# Altium footprint library PcbLib1.PcbLib: 22 footprints (part 2 of 2)
Each footprint in its own frame and in the unit in brackets; x right, y up, seen from the top. Pads: shape width x height; smd on the part's side, far side on the other; paste and mask are expansions set on the pad; w line width, h text height; cw(c..) or ccw(c..) is an arc to the next point about the centre after c.
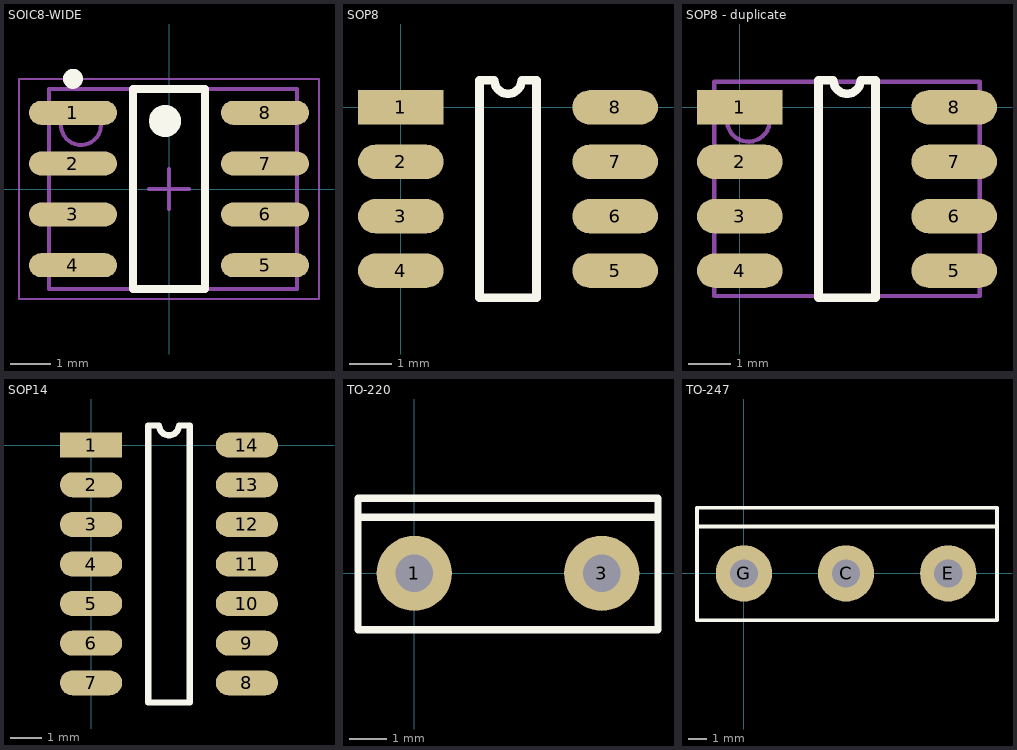
[diagram p1: the footprints below, top view; thin cyan lines are the x and y axes]

## SOIC8-WIDE [mm] "SOIC, 8-Leads, Body 4.9x3.9mm, Pitch 1.27mm, IPC Medium Density"
height 1.75
pads (8):
  oval 2.2x0.6 smd: 1(-2.4,1.905) 2(-2.4,0.635) 3(-2.4,-0.635) 4(-2.4,-1.905) 5(2.4,-1.905) 6(2.4,-0.635) 7(2.4,0.635) 8(2.4,1.905)
Top Overlay:
  circle w0.4: c-0.1,1.7 r0.2
  circle w0.25: c-2.4,2.755 r0.125
  lines w0.2: -0.9,-2.5 0.9,-2.5 0.9,2.5 -0.9,2.5 -0.9,-2.5
Mechanical 13:
  circle w0.1: c-2.2,1.6 r0.5
  lines w0.1: -3,-2.5 3.2,-2.5 3.2,2.5 -3,2.5 -3,-2.5
Mechanical 15:
  lines w0.05: -3.75,-2.75 3.75,-2.75 3.75,2.75 -3.75,2.75 -3.75,-2.75
  lines w0.1: -0.5,0 0.5,0 ; 0,-0.5 0,0.5
3D body: height 1.75, standoff -0.01, extent -2.999,-2.5 3.2,2.5

## SOP8 [mm]
pads (8):
  rect 2x0.8 smd: 1(0,0)
  oval 2x0.8 smd: 2(0,-1.27) 3(0,-2.54) 4(0,-3.81) 5(5,-3.81) 6(5,-2.54) 7(5,-1.27) 8(5,0)
Top Overlay:
  lines w0.2: 1.835,-4.445 1.835,0.635 2.183,0.635 ccw(c2.5,0.635) 2.818,0.635 3.165,0.635 3.165,-4.445 1.835,-4.445

## SOP8 - duplicate [mm]
pads (8):
  rect 2x0.8 smd: 1(0,0)
  oval 2x0.8 smd: 2(0,-1.27) 3(0,-2.54) 4(0,-3.81) 5(5,-3.81) 6(5,-2.54) 7(5,-1.27) 8(5,0)
Top Overlay:
  lines w0.2: 1.835,-4.445 3.165,-4.445 3.165,0.635 2.818,0.635 cw(c2.5,0.635) 2.183,0.635 1.835,0.635 1.835,-4.445
Mechanical 13:
  circle w0.1: c0.2,-0.3 r0.5
  lines w0.1: -0.6,-4.4 -0.6,0.6 5.6,0.6 5.6,-4.4 -0.6,-4.4
3D body: height 1.75, standoff -0.01, extent -0.599,-4.4 5.6,0.6

## SOP14 [mm]
pads (14):
  rect 2x0.8 smd: 1(0,0)
  oval 2x0.8 smd: 2(0,-1.27) 3(0,-2.54) 4(0,-3.81) 5(0,-5.08) 6(0,-6.35) 7(0,-7.62) 8(5,-7.62) 9(5,-6.35) 10(5,-5.08) 11(5,-3.81) 12(5,-2.54) 13(5,-1.27) 14(5,0)
Top Overlay:
  lines w0.2: 1.835,-8.255 1.835,0.635 2.183,0.635 ccw(c2.5,0.635) 2.818,0.635 3.165,0.635 3.165,-8.255 1.835,-8.255

## TO-220 [mm]
pads (2):
  round 2 hole 1: 1(0,0) 3(5,0)
Top Overlay:
  lines w0.2: 6.5,1.5 -1.5,1.5 ; -1.5,1.5 -1.5,2 6.5,2 6.5,-1.5 -1.5,-1.5 -1.5,1.5

## TO-247 [mm]
pads (3):
  round 3 hole 1.5: C(5.45,0) E(10.9,0) G(0,0)
Top Overlay:
  lines w0.2: -2.5,2.5 -2.5,3.5 13.5,3.5 13.5,2.5 ; -2.5,2.5 13.5,2.5 ; -2.5,2.5 -2.5,-2.5 13.5,-2.5 13.5,2.5